# Altium schematic symbol library SG_SCH_AltSobor.SchLib: 94 symbols
Pins are listed as number, name and electrical type; pins without a type are passive.

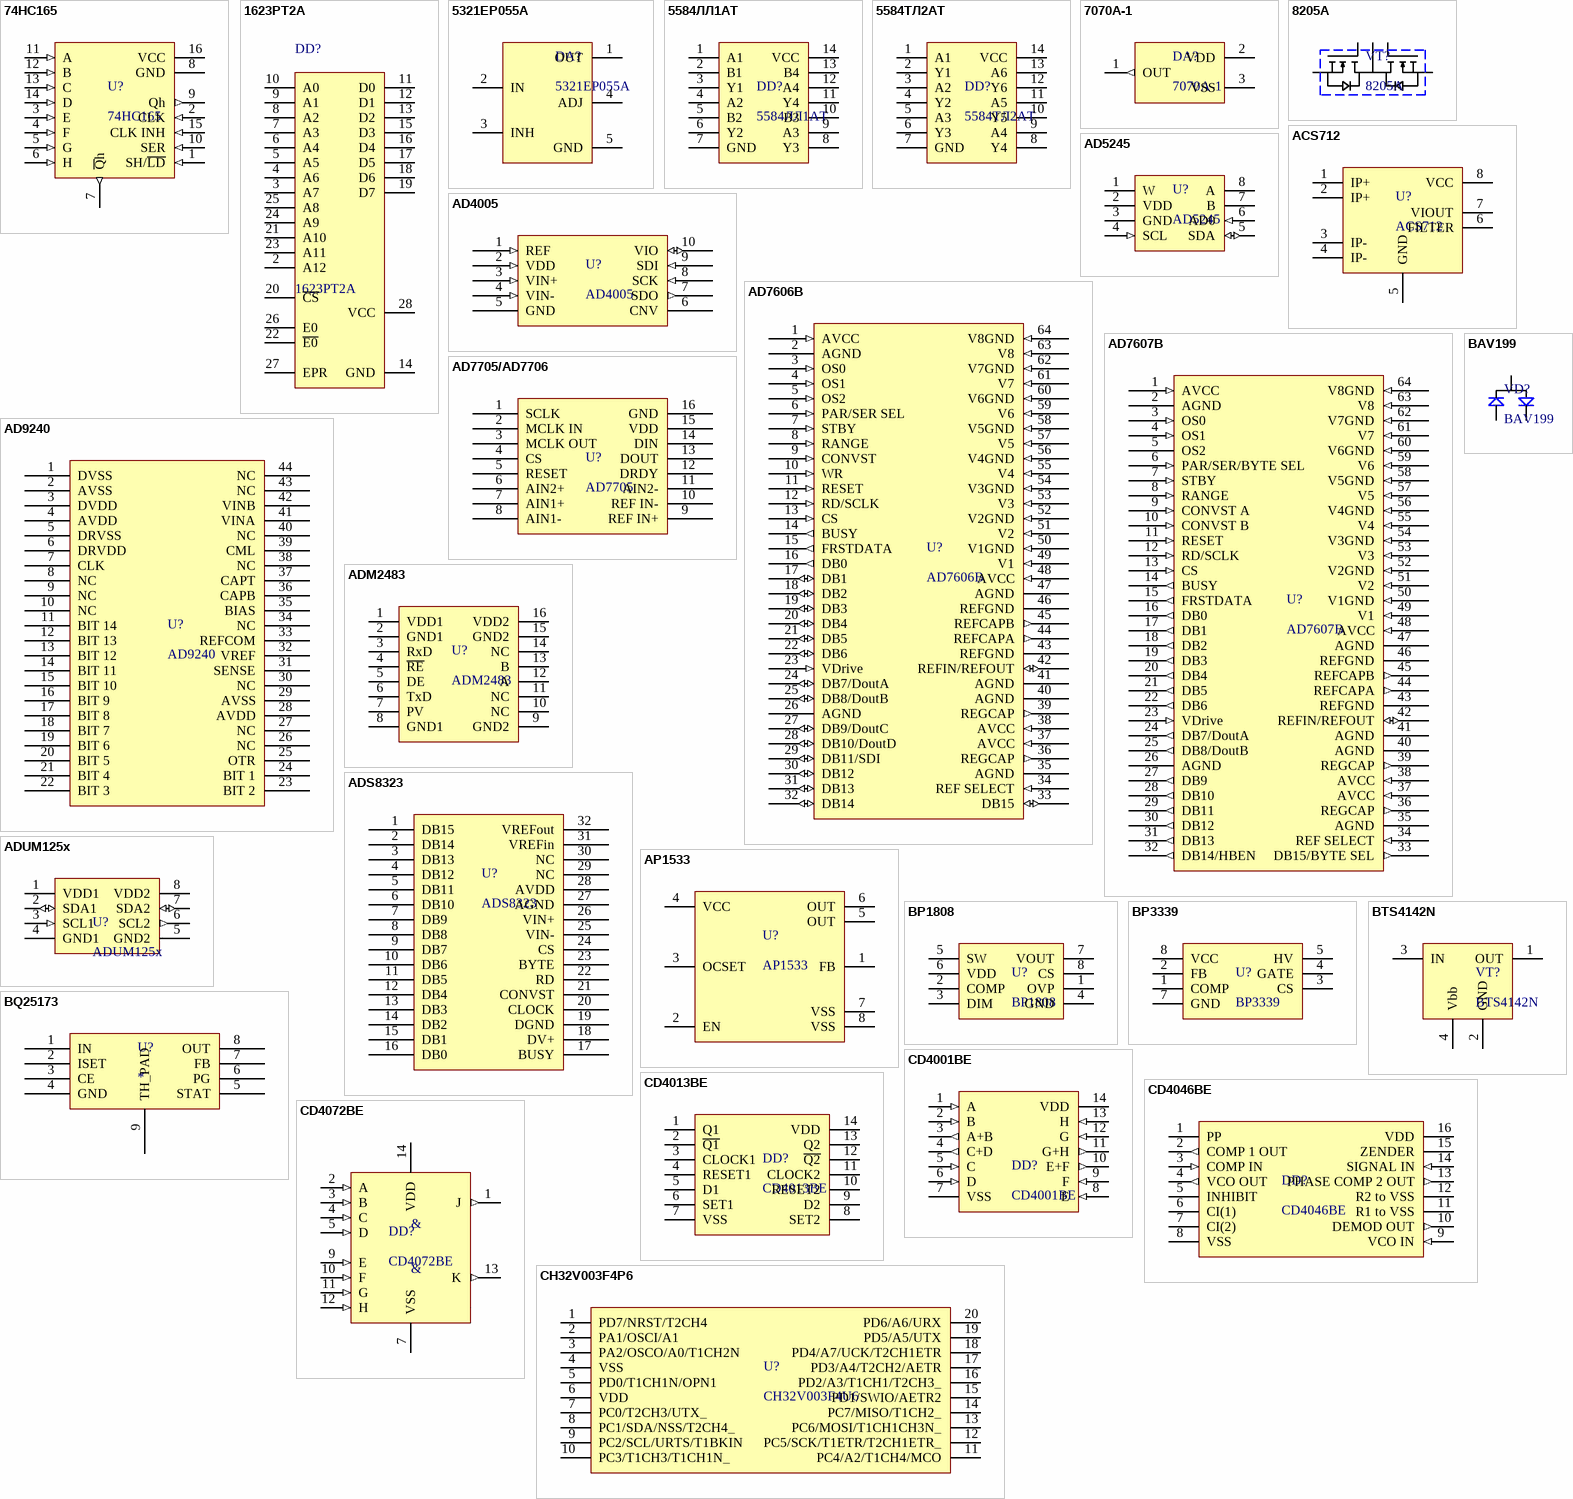
[diagram p0: symbols 74HC165 to CH32V003F4P6]

## 74HC165
designator U?
8-BIT PARALLEL-LOAD SHIFT REGISTERS; Order: 74HC165M
footprint SO-16
pins: 1 SH/~{LD} (in), 2 CLK (in), 3 E (in), 4 F (in), 5 G (in), 6 H (in), 7 ~{Q}h (out), 8 GND (power), 9 Qh (out), 10 SER (in), 11 A (in), 12 B (in), 13 C (in), 14 D (in), 15 CLK INH (in), 16 VCC (power)

## 1623PT2A
designator DD?
Постоянное запоминающее устройство / однократнопрограммируемое; Order: 1623PT2A
pins: 2 A12, 3 A7, 4 A6, 5 A5, 6 A4, 7 A3, 8 A2, 9 A1, 10 A0, 11 D0, 12 D1, 13 D2, 14 GND, 15 D3, 16 D4, 17 D5, 18 D6, 19 D7, 20 ~{CS}, 21 A10, 22 ~{E0}, 23 A11, 24 A9, 25 A8, 26 E0, 27 EPR, 28 VCC

## 5321EP055A
designator DA?
pins: 1 OUT, 2 IN, 3 INH, 4 ADJ, 5 GND

## 5584ЛЛ1АТ
designator DD?
Четыре логических элемента "2ИЛИ".
pins: 1 A1, 2 B1, 3 Y1, 4 A2, 5 B2, 6 Y2, 7 GND, 8 Y3, 9 A3, 10 B3, 11 Y4, 12 A4, 13 B4, 14 VCC

## 5584ТЛ2АТ
designator DD?
Микросхемы 5584ТЛ2АТ
pins: 1 A1, 2 Y1, 3 A2, 4 Y2, 5 A3, 6 Y3, 7 GND, 8 Y4, 9 A4, 10 Y5, 11 A5, 12 Y6, 13 A6, 14 VCC

## 7070A-1
designator DA?
Low Power Voltage Detector
pins: 1 OUT (out), 2 VDD (power), 3 VSS (power)

## 8205A
designator VT?
Dual N-Channel Enhancement PowerMosfet; Order: 8205A
footprint SOT23-6
pins: 1 S1, 2 D1/D2, 3 S2, 4 G2, 5 D1/D2, 6 G1

## ACS712
designator U?
Fully Integrated, Hall Effect-Based Linear Current Sensor IC / with 2.1 kVRMS Isolation and a Low-Resistance Current Conductor
footprint SO-8 (Small Outline; 8 Leads; Body Width 3.9 mm; Pitch 1.27 mm)
pins: 1 IP+, 2 IP+, 3 IP-, 4 IP-, 5 GND, 6 FILTER, 7 VIOUT, 8 VCC

## AD4005
designator U?
ADC 16 bit, 1MSPS
pins: 1 REF (in), 2 VDD (in), 3 VIN+ (in), 4 VIN- (in), 5 GND (power), 6 CNV, 7 SDO (out), 8 SCK (in), 9 SDI (in), 10 VIO (io)

## AD5245
designator U?
256-Position I2C-Compatible / Digital Potentiometer; Order: AD5245BRJZ100
footprint SOT23-RJ8
pins: 1 W, 2 VDD (power), 3 GND (power), 4 SCL (in), 5 SDA (io), 6 AD0 (in), 7 B, 8 A

## AD7606B
designator U?
ADC 16-bit, 800ksps, parallel
pins: 1 AVCC (in), 2 AGND (power), 3 OS0 (in), 4 OS1 (in), 5 OS2 (in), 6 PAR/SER SEL (in), 7 STBY (in), 8 RANGE (in), 9 CONVST (in), 10 WR (in), 11 RESET (in), 12 RD/SCLK (in), 13 CS (in), 14 BUSY (out), 15 FRSTDATA (out), 16 DB0 (out), 17 DB1 (io), 18 DB2 (io), 19 DB3 (io), 20 DB4 (io), 21 DB5 (io), 22 DB6 (io), 23 VDrive (in), 24 DB7/DoutA (io), 25 DB8/DoutB (io), 26 AGND (power), 27 DB9/DoutC (io), 28 DB10/DoutD (io), 29 DB11/SDI (io), 30 DB12 (io), 31 DB13 (io), 32 DB14 (io), 33 DB15 (io), 34 REF SELECT (in), 35 AGND (power), 36 REGCAP (out), 37 AVCC (in), 38 AVCC (in), 39 REGCAP (out), 40 AGND (power), 41 AGND (power), 42 REFIN/REFOUT (io), 43 REFGND (power), 44 REFCAPA (out), 45 REFCAPB (out), 46 REFGND (power), 47 AGND (power), 48 AVCC (in), 49 V1 (in), 50 V1GND (in), 51 V2 (in), 52 V2GND (in), 53 V3 (in), 54 V3GND (in), 55 V4 (in), 56 V4GND (in), 57 V5 (in), 58 V5GND (in), 59 V6 (in), 60 V6GND (in), 61 V7 (in), 62 V7GND (in), 63 V8 (in), 64 V8GND (in)

## AD7607B
designator U?
ADC 16-bit, 800ksps, parallel
pins: 1 AVCC (in), 2 AGND (power), 3 OS0 (in), 4 OS1 (in), 5 OS2, 6 PAR/SER/BYTE SEL (in), 7 STBY (in), 8 RANGE (in), 9 CONVST A (in), 10 CONVST B (in), 11 RESET (in), 12 RD/SCLK (in), 13 CS (in), 14 BUSY (out), 15 FRSTDATA (out), 16 DB0 (out), 17 DB1 (out), 18 DB2 (out), 19 DB3 (out), 20 DB4 (out), 21 DB5 (out), 22 DB6 (out), 23 VDrive (in), 24 DB7/DoutA (out), 25 DB8/DoutB (out), 26 AGND (power), 27 DB9 (out), 28 DB10 (out), 29 DB11 (out), 30 DB12 (out), 31 DB13 (out), 32 DB14/HBEN (out), 33 DB15/BYTE SEL (out), 34 REF SELECT (in), 35 AGND (power), 36 REGCAP (out), 37 AVCC (in), 38 AVCC (in), 39 REGCAP (out), 40 AGND (power), 41 AGND (power), 42 REFIN/REFOUT (io), 43 REFGND (power), 44 REFCAPA (out), 45 REFCAPB (out), 46 REFGND (power), 47 AGND (power), 48 AVCC (in), 49 V1 (in), 50 V1GND (in), 51 V2 (in), 52 V2GND (in), 53 V3 (in), 54 V3GND (in), 55 V4 (in), 56 V4GND (in), 57 V5 (in), 58 V5GND (in), 59 V6 (in), 60 V6GND (in), 61 V7 (in), 62 V7GND (in), 63 V8 (in), 64 V8GND (in)

## AD7705/AD7706
designator U?, comment AD7705
2 fully differential input channel ADCs 16 bit
pins: 1 SCLK, 2 MCLK IN, 3 MCLK OUT, 4 CS, 5 RESET, 6 AIN2+, 7 AIN1+, 8 AIN1-, 9 REF IN+, 10 REF IN-, 11 AIN2-, 12 DRDY, 13 DOUT, 14 DIN, 15 VDD, 16 GND

## AD9240
designator U?
ADC 14 bit
pins: 1 DVSS, 2 AVSS, 3 DVDD, 4 AVDD, 5 DRVSS, 6 DRVDD, 7 CLK, 8 NC, 9 NC, 10 NC, 11 BIT 14, 12 BIT 13, 13 BIT 12, 14 BIT 11, 15 BIT 10, 16 BIT 9, 17 BIT 8, 18 BIT 7, 19 BIT 6, 20 BIT 5, 21 BIT 4, 22 BIT 3, 23 BIT 2, 24 BIT 1, 25 OTR, 26 NC, 27 NC, 28 AVDD, 29 AVSS, 30 NC, 31 SENSE, 32 VREF, 33 REFCOM, 34 NC, 35 BIAS, 36 CAPB, 37 CAPT, 38 NC, 39 CML, 40 NC, 41 VINA, 42 VINB, 43 NC, 44 NC

## ADM2483
designator U?
Order: ADM2483
footprint SO-16_300mil
pins: 1 VDD1, 2 GND1, 3 RxD, 4 ~{RE}, 5 DE, 6 TxD, 7 PV, 8 GND1, 9 GND2, 10 NC, 11 NC, 12 A, 13 B, 14 NC, 15 GND2, 16 VDD2

## ADS8323
designator U?
ADC 16 bit 500 kSPS; Order: ADS8323
footprint QFN-32 (, Pitch 0,40mm, Thermal Pad 2,80x2,80mm, IPC Medium Density)
footprint TQFP-32 (TQFP, 32-Leads, Body 7,00x7,00mm, Pitch 0,80mm, IPC Medium Density)
pins: 1 DB15, 2 DB14, 3 DB13, 4 DB12, 5 DB11, 6 DB10, 7 DB9, 8 DB8, 9 DB7, 10 DB6, 11 DB5, 12 DB4, 13 DB3, 14 DB2, 15 DB1, 16 DB0, 17 BUSY, 18 DV+, 19 DGND, 20 CLOCK, 21 CONVST, 22 RD, 23 BYTE, 24 CS, 25 VIN-, 26 VIN+, 27 AGND, 28 AVDD, 29 NC, 30 NC, 31 VREFin, 32 VREFout

## ADUM125x
designator U?
Hot Swappable Dual I2C Isolators; Order: ADUM1251
footprint SO-8 (Small Outline; 8 Leads; Body Width 3.9 mm; Pitch 1.27 mm)
pins: 1 VDD1 (power), 2 SDA1 (io), 3 SCL1 (in), 4 GND1 (power), 5 GND2 (power), 6 SCL2 (out), 7 SDA2 (io), 8 VDD2 (power)

## AP1533
designator U?
PWM CONTROL 1.8A STEP-DOWN CONVERTER
pins: 1 FB, 2 EN, 3 OCSET, 4 VCC, 5 OUT, 6 OUT, 7 VSS, 8 VSS

## BAV199
designator VD?
Low-leakage double diode; Order: BAV199
footprint SOT23-3
pins: 1, 2, 3

## BP1808
designator U?
Boost, Buck and Buck-Boost DC/DC LED Driver
footprint SO-8 (Small Outline; 8 Leads; Body Width 3.9 mm; Pitch 1.27 mm)
pins: 1 OVP, 2 COMP, 3 DIM, 4 GND, 5 SW, 6 VDD, 7 VOUT, 8 CS

## BP3339
designator U?
High PF PSR LED Driver Controller; Order: BP3339
footprint SO-8 (Small Outline; 8 Leads; Body Width 3.9 mm; Pitch 1.27 mm)
pins: 1 COMP, 2 FB, 3 CS, 4 GATE, 5 HV, 7 GND, 8 VCC

## BQ25173
designator U?
pins: 1 IN (power), 2 ISET, 3 CE, 4 GND (power), 5 STAT, 6 PG, 7 FB, 8 OUT (power), 9 TH_PAD

## BTS4142N
designator VT?
Smart High-Side Power Switch; Order: BTS4142N
footprint SOT223
pins: 1 OUT, 2 GND, 3 IN, 4 Vbb

## CD4001BE
designator DD?
4 & logic; Order: CD4001BE
pins: 1 A (in), 2 B (in), 3 A+B (out), 4 C+D (out), 5 C (in), 6 D (in), 7 VSS (power), 8 E (in), 9 F (in), 10 E+F (out), 11 G+H (out), 12 G (in), 13 H (in), 14 VDD (power)

## CD4013BE
designator DD?
2xTrigger; Order: CD4013BE
pins: 1 Q1, 2 ~{Q1}, 3 CLOCK1, 4 RESET1, 5 D1, 6 SET1, 7 VSS, 8 SET2, 9 D2, 10 RESET2, 11 CLOCK2, 12 ~{Q2}, 13 Q2, 14 VDD

## CD4046BE
designator DD?
CMOS Micropower Phase-Locked Loop
footprint DIP-16
pins: 1 PP, 2 COMP 1 OUT (out), 3 COMP IN (in), 4 VCO OUT (out), 5 INHIBIT, 6 CI(1), 7 CI(2), 8 VSS (power), 9 VCO IN (in), 10 DEMOD OUT (out), 11 R1 to VSS, 12 R2 to VSS, 13 PHASE COMP 2 OUT (out), 14 SIGNAL IN (in), 15 ZENDER (power), 16 VDD (power)

## CD4072BE
designator DD?
2x4-input OR; Order: CD4072BE
pins: 1 J (out), 2 A (in), 3 B (in), 4 C (in), 5 D (in), 6 NC, 7 VSS (power), 8 NC, 9 E (in), 10 F (in), 11 G (in), 12 H (in), 13 K (out), 14 VDD (power)
text: &

## CH32V003F4P6
designator U?, comment CH32V003F4U6
Микроконтроллер
footprint QFN-20
pins: 1 PD7/NRST/T2CH4, 2 PA1/OSCI/A1, 3 PA2/OSCO/A0/T1CH2N, 4 VSS, 5 PD0/T1CH1N/OPN1, 6 VDD, 7 PC0/T2CH3/UTX_, 8 PC1/SDA/NSS/T2CH4_, 9 PC2/SCL/URTS/T1BKIN, 10 PC3/T1CH3/T1CH1N_, 11 PC4/A2/T1CH4/MCO, 12 PC5/SCK/T1ETR/T2CH1ETR_, 13 PC6/MOSI/T1CH1CH3N_, 14 PC7/MISO/T1CH2_, 15 PD1/SWIO/AETR2, 16 PD2/A3/T1CH1/T2CH3_, 17 PD3/A4/T2CH2/AETR, 18 PD4/A7/UCK/T2CH1ETR, 19 PD5/A5/UTX, 20 PD6/A6/URX

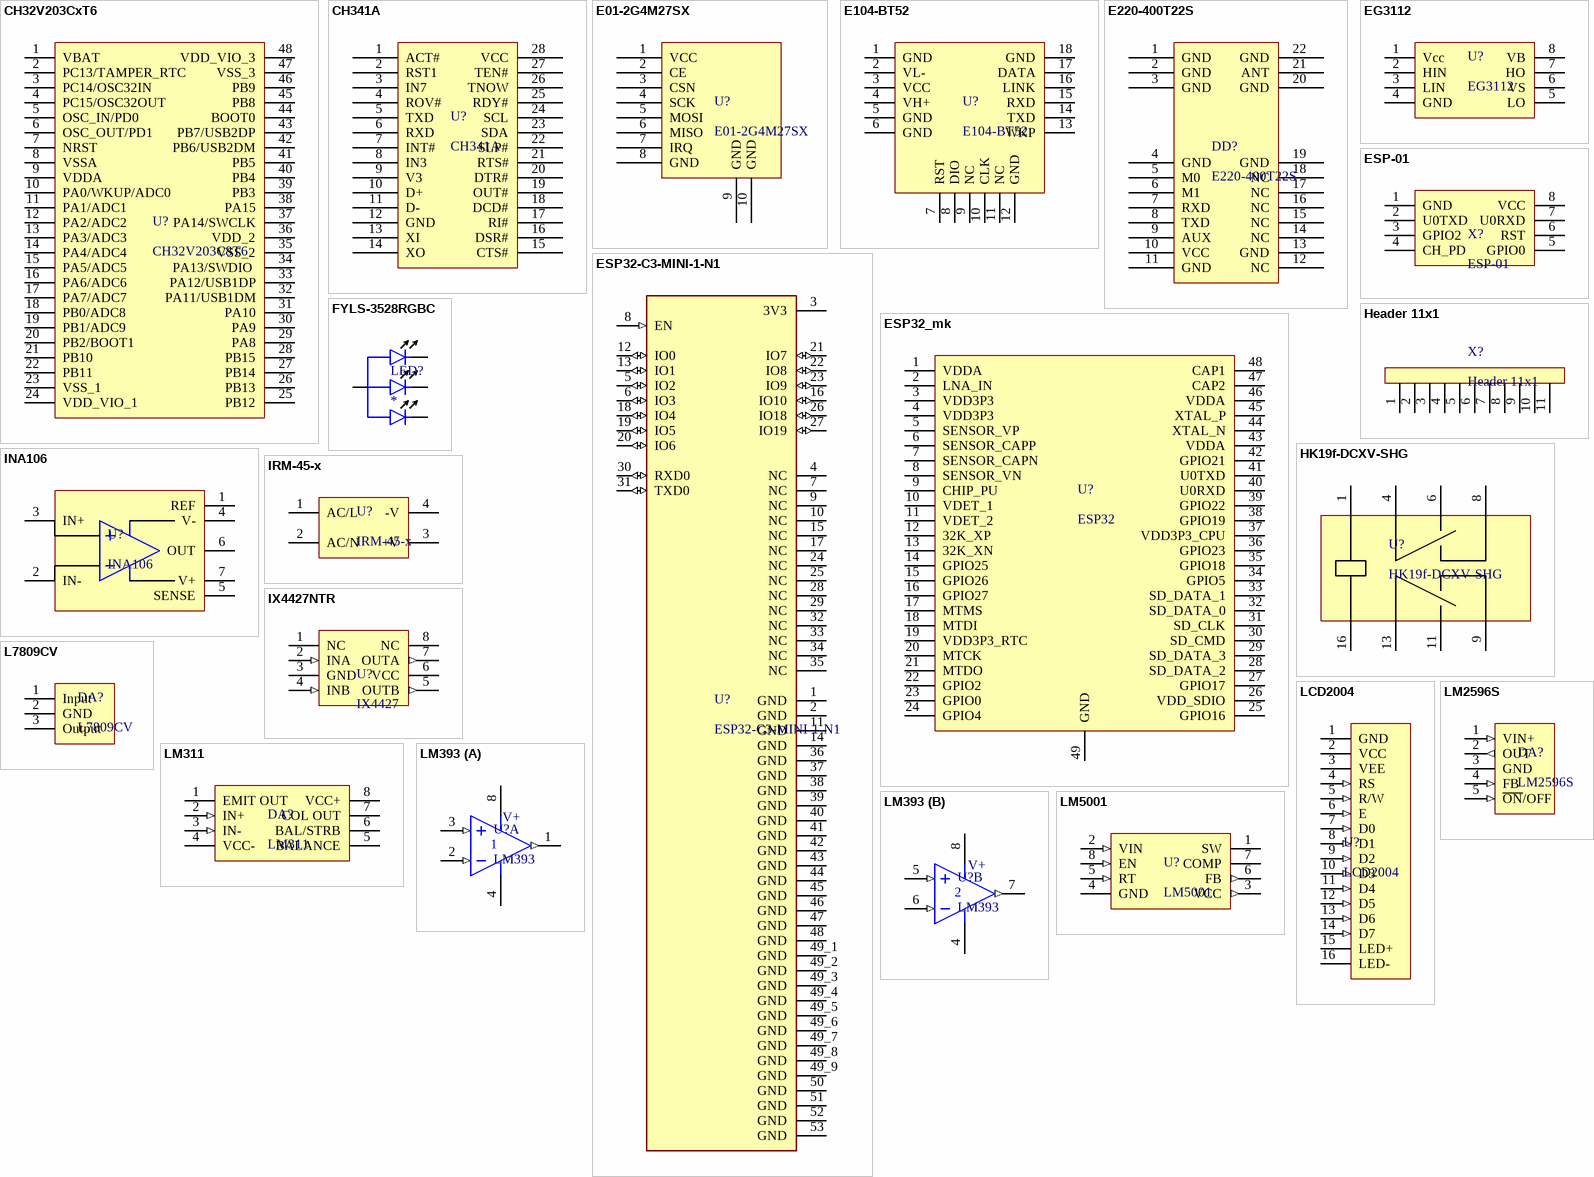
[diagram p1: symbols CH32V203CxT6 to LM5001]

## CH32V203CxT6
designator U?, comment CH32V203C8T6
CH32V203C8T6, Микроконтроллер 32-Бит, RISC-V, 144МГц, 64КБ Flash [LQFP-48]; Order: CH32V203C8T6
footprint LQFP-48 (48-Pin Thin Quad Flat Pack 0.5 mm Pitch, IPC High Density)
pins: 1 VBAT, 2 PC13/TAMPER_RTC, 3 PC14/OSC32IN, 4 PC15/OSC32OUT, 5 OSC_IN/PD0, 6 OSC_OUT/PD1, 7 NRST, 8 VSSA, 9 VDDA, 10 PA0/WKUP/ADC0 , 11 PA1/ADC1, 12 PA2/ADC2, 13 PA3/ADC3, 14 PA4/ADC4, 15 PA5/ADC5, 16 PA6/ADC6, 17 PA7/ADC7, 18 PB0/ADC8, 19 PB1/ADC9, 20 PB2/BOOT1, 21 PB10, 22 PB11, 23 VSS_1, 24 VDD_VIO_1, 25 PB12, 26 PB13, 27 PB14, 28 PB15, 29 PA8, 30 PA9, 31 PA10, 32 PA11/USB1DM, 33 PA12/USB1DP, 34 PA13/SWDIO , 35 VSS_2, 36 VDD_2, 37 PA14/SWCLK, 38 PA15, 39 PB3, 40 PB4, 41 PB5, 42 PB6/USB2DM, 43 PB7/USB2DP, 44 BOOT0, 45 PB8, 46 PB9, 47 VSS_3, 48 VDD_VIO_3

## CH341A
designator U?
USB-UART convertor
pins: 1 ACT#, 2 RST1, 3 IN7, 4 ROV#, 5 TXD, 6 RXD, 7 INT#, 8 IN3, 9 V3, 10 D+, 11 D-, 12 GND, 13 XI, 14 XO, 15 CTS#, 16 DSR#, 17 RI#, 18 DCD#, 19 OUT#, 20 DTR#, 21 RTS#, 22 SLP#, 23 SDA, 24 SCL, 25 RDY#, 26 TNOW, 27 TEN#, 28 VCC

## E01-2G4M27SX
designator U?
NRF-Radio 2.4 GHz; Order: E01-2G4M27SX
pins: 1 VCC, 2 CE, 3 CSN, 4 SCK, 5 MOSI, 6 MISO, 7 IRQ, 8 GND, 9 GND, 10 GND

## E104-BT52
designator U?
BLE 5.0; Order: E104-BT52
pins: 1 GND, 2 VL-, 3 VCC, 4 VH+, 5 GND, 6 GND, 7 RST, 8 DIO, 9 NC, 10 CLK, 11 NC, 12 GND, 13 WKP, 14 TXD, 15 RXD, 16 LINK, 17 DATA, 18 GND

## E220-400T22S
designator DD?
22dBm LoRa module; Order: *; DefaultOrder: E220-400T22S
pins: 1 GND, 2 GND, 3 GND, 4 GND, 5 M0, 6 M1, 7 RXD, 8 TXD, 9 AUX, 10 VCC, 11 GND, 12 NC, 13 GND, 14 NC, 15 NC, 16 NC, 17 NC, 18 NC, 19 GND, 20 GND, 21 ANT, 22 GND

## EG3112
designator U?
Драйверы MOSFET и IGBT; Order: EG3112
footprint SO-8 (Small Outline; 8 Leads; Body Width 3.9 mm; Pitch 1.27 mm)
pins: 1 Vcc, 2 HIN, 3 LIN, 4 GND, 5 LO, 6 VS, 7 HO, 8 VB

## ESP32-C3-MINI-1-N1
designator U?
pins: 1 GND (power), 2 GND (power), 3 3V3 (power), 4 NC, 5 IO2 (io), 6 IO3 (io), 7 NC, 8 EN (in), 9 NC, 10 NC, 11 GND (power), 12 IO0 (io), 13 IO1 (io), 14 GND (power), 15 NC, 16 IO10 (io), 17 NC, 18 IO4 (io), 19 IO5 (io), 20 IO6 (io), 21 IO7 (io), 22 IO8 (io), 23 IO9 (io), 24 NC, 25 NC, 26 IO18 (io), 27 IO19 (io), 28 NC, 29 NC, 30 RXD0 (io), 31 TXD0 (io), 32 NC, 33 NC, 34 NC, 35 NC, 36 GND (power), 37 GND (power), 38 GND (power), 39 GND (power), 40 GND (power), 41 GND (power), 42 GND (power), 43 GND (power), 44 GND (power), 45 GND (power), 46 GND (power), 47 GND (power), 48 GND (power), 49_1 GND (power), 49_2 GND (power), 49_3 GND (power), 49_4 GND (power), 49_5 GND (power), 49_6 GND (power), 49_7 GND (power), 49_8 GND (power), 49_9 GND (power), 50 GND (power), 51 GND (power), 52 GND (power), 53 GND (power)

## ESP32_mk
designator U?, comment ESP32
ESP32 is a single 2.4 GHz Wi-Fi-and-Bluetooth combo chip designed with the TSMC ultra-low-power 40 nm / technology. It is designed to achieve the best power and RF performance, showing robustness, versatility and / reliability in a wide variety of applications and power scenarios. / The ESP32 series of chips includes ESP32-D0WD-V3, ESP32-D0WDQ6-V3, ESP32-D0WD, ESP32-D0WDQ6, / ESP32-D2WD, ESP32-S0WD, and ESP32-U4WDH, among which, ESP32-D0WD-V3, ESP32-D0WDQ6-V3, / and ESP32-U4WDH are based on ECO V3 wafer; Order: ESP32-D0WD-V3
footprint QFN-48M (QFN, 48-Leads, Body 6,00x6,00mm, Pitch 0,40mm, Thermal Pad 4,60x4,60mm, IPC Low Density)
pins: 1 VDDA (power), 2 LNA_IN, 3 VDD3P3 (power), 4 VDD3P3 (power), 5 SENSOR_VP, 6 SENSOR_CAPP, 7 SENSOR_CAPN, 8 SENSOR_VN, 9 CHIP_PU, 10 VDET_1, 11 VDET_2, 12 32K_XP, 13 32K_XN, 14 GPIO25, 15 GPIO26, 16 GPIO27, 17 MTMS, 18 MTDI, 19 VDD3P3_RTC, 20 MTCK, 21 MTDO, 22 GPIO2, 23 GPIO0, 24 GPIO4, 25 GPIO16, 26 VDD_SDIO, 27 GPIO17, 28 SD_DATA_2, 29 SD_DATA_3, 30 SD_CMD, 31 SD_CLK, 32 SD_DATA_0, 33 SD_DATA_1, 34 GPIO5, 35 GPIO18, 36 GPIO23, 37 VDD3P3_CPU, 38 GPIO19, 39 GPIO22, 40 U0RXD, 41 U0TXD, 42 GPIO21, 43 VDDA (power), 44 XTAL_N, 45 XTAL_P, 46 VDDA (power), 47 CAP2, 48 CAP1, 49 GND (power)

## ESP-01
designator X?
WiFi модуль ESP8266 ESP01; Order: ESP01
footprint WIRELESS-WIFI-ESP-01
pins: 1 GND, 2 U0TXD, 3 GPIO2, 4 CH_PD, 5 GPIO0, 6 RST, 7 U0RXD, 8 VCC

## FYLS-3528RGBC
designator LED?
Light Emmiting RGB Diode; Order: FYLS-3528RGBC
pins: 1 RED, 2 Anode, 3 GREEN, 4 BLUE

## Header 11x1
designator X?
Order: *
pins: 1, 2, 3, 4, 5, 6, 7, 8, 9, 10, 11

## HK19f-DCXV-SHG
designator U?
Реле; Order: HK19f-DCXV-SHG
pins: 1, 4, 6, 8, 9, 11, 13, 16

## INA106
designator U?
Precision Gain = 10 / DIFFERENTIAL AMPLIFIER; Order: INA106
footprint SO-8 (Small Outline; 8 Leads; Body Width 3.9 mm; Pitch 1.27 mm)
pins: 1 REF, 2 IN-, 3 IN+, 4 V-, 5 SENSE, 6 OUT, 7 V+

## IRM-45-x
designator U?
45W AC-DC PCB-Mount Green Power Module; Order: *
footprint IRM-45
pins: 1 AC/L (power), 2 AC/N (power), 3 +V (power), 4 -V (power)

## IX4427NTR
designator U?, comment IX4427
1.5-Ampere Dual Low-Side / Ultrafast MOSFET Drivers; Order: IX4427NTR
footprint SO-8 (Small Outline; 8 Leads; Body Width 3.9 mm; Pitch 1.27 mm)
pins: 1 NC, 2 INA (in), 3 GND (power), 4 INB (in), 5 OUTB (out), 6 VCC (power), 7 OUTA (out), 8 NC

## L7809CV
designator DA?
L7809CV, Стабилизатор напряжения +9В, 1.5А, 4%, (0°C...+125°C), [TO-220]; Order: L7809CV
footprint TO-220
pins: 1 Input, 2 GND, 3 Output

## LCD2004
designator U?
LCD2004, Индикатор символьный 20х4 на основе HD44780
pins: 1 GND (power), 2 VCC (power), 3 VEE (power), 4 RS (in), 5 R/W (in), 6 E (in), 7 D0 (in), 8 D1 (in), 9 D2 (in), 10 D3 (in), 11 D4 (in), 12 D5 (in), 13 D6 (in), 14 D7 (in), 15 LED+ (power), 16 LED- (power)

## LM311
designator DA?
LMx11 Quad Differential Comparators; Order: LM311
footprint SO-8 (Small Outline; 8 Leads; Body Width 3.9 mm; Pitch 1.27 mm)
footprint DIP-8-300 (DIP; 8 Leads; Row Spacing 7.62 mm; Pitch 2.54 mm)
pins: 1 EMIT OUT (oe), 2 IN+ (in), 3 IN- (in), 4 VCC- (power), 5 BALANCE, 6 BAL/STRB, 7 COL OUT (oc), 8 VCC+

## LM393
designator U?
Двойной маломощный компаратор напряжения
part A pins: 1 OUT (out), 2 IN+ (in), 3 IN- (in), 4 V- (power), 8 V+ (power)
part B pins: 4 V- (power), 5 IN- (in), 6 IN+ (in), 7 OUT (out), 8 V+ (power)

## LM2596S
designator DA?
3A Step-Down Voltage Regulator; Order: LM2596S
pins: 1 VIN+ (in), 2 OUT (out), 3 GND (power), 4 FB (in), 5 ~{ON}/OFF (in)

## LM5001
designator U?
High-Voltage Switch-Mode Regulator; Order: LM5001
footprint SO-8 (Small Outline; 8 Leads; Body Width 3.9 mm; Pitch 1.27 mm)
pins: 1 SW (oc), 2 VIN (in), 3 VCC (out), 4 GND (power), 5 RT (in), 6 FB (out), 7 COMP (oc), 8 EN (in)

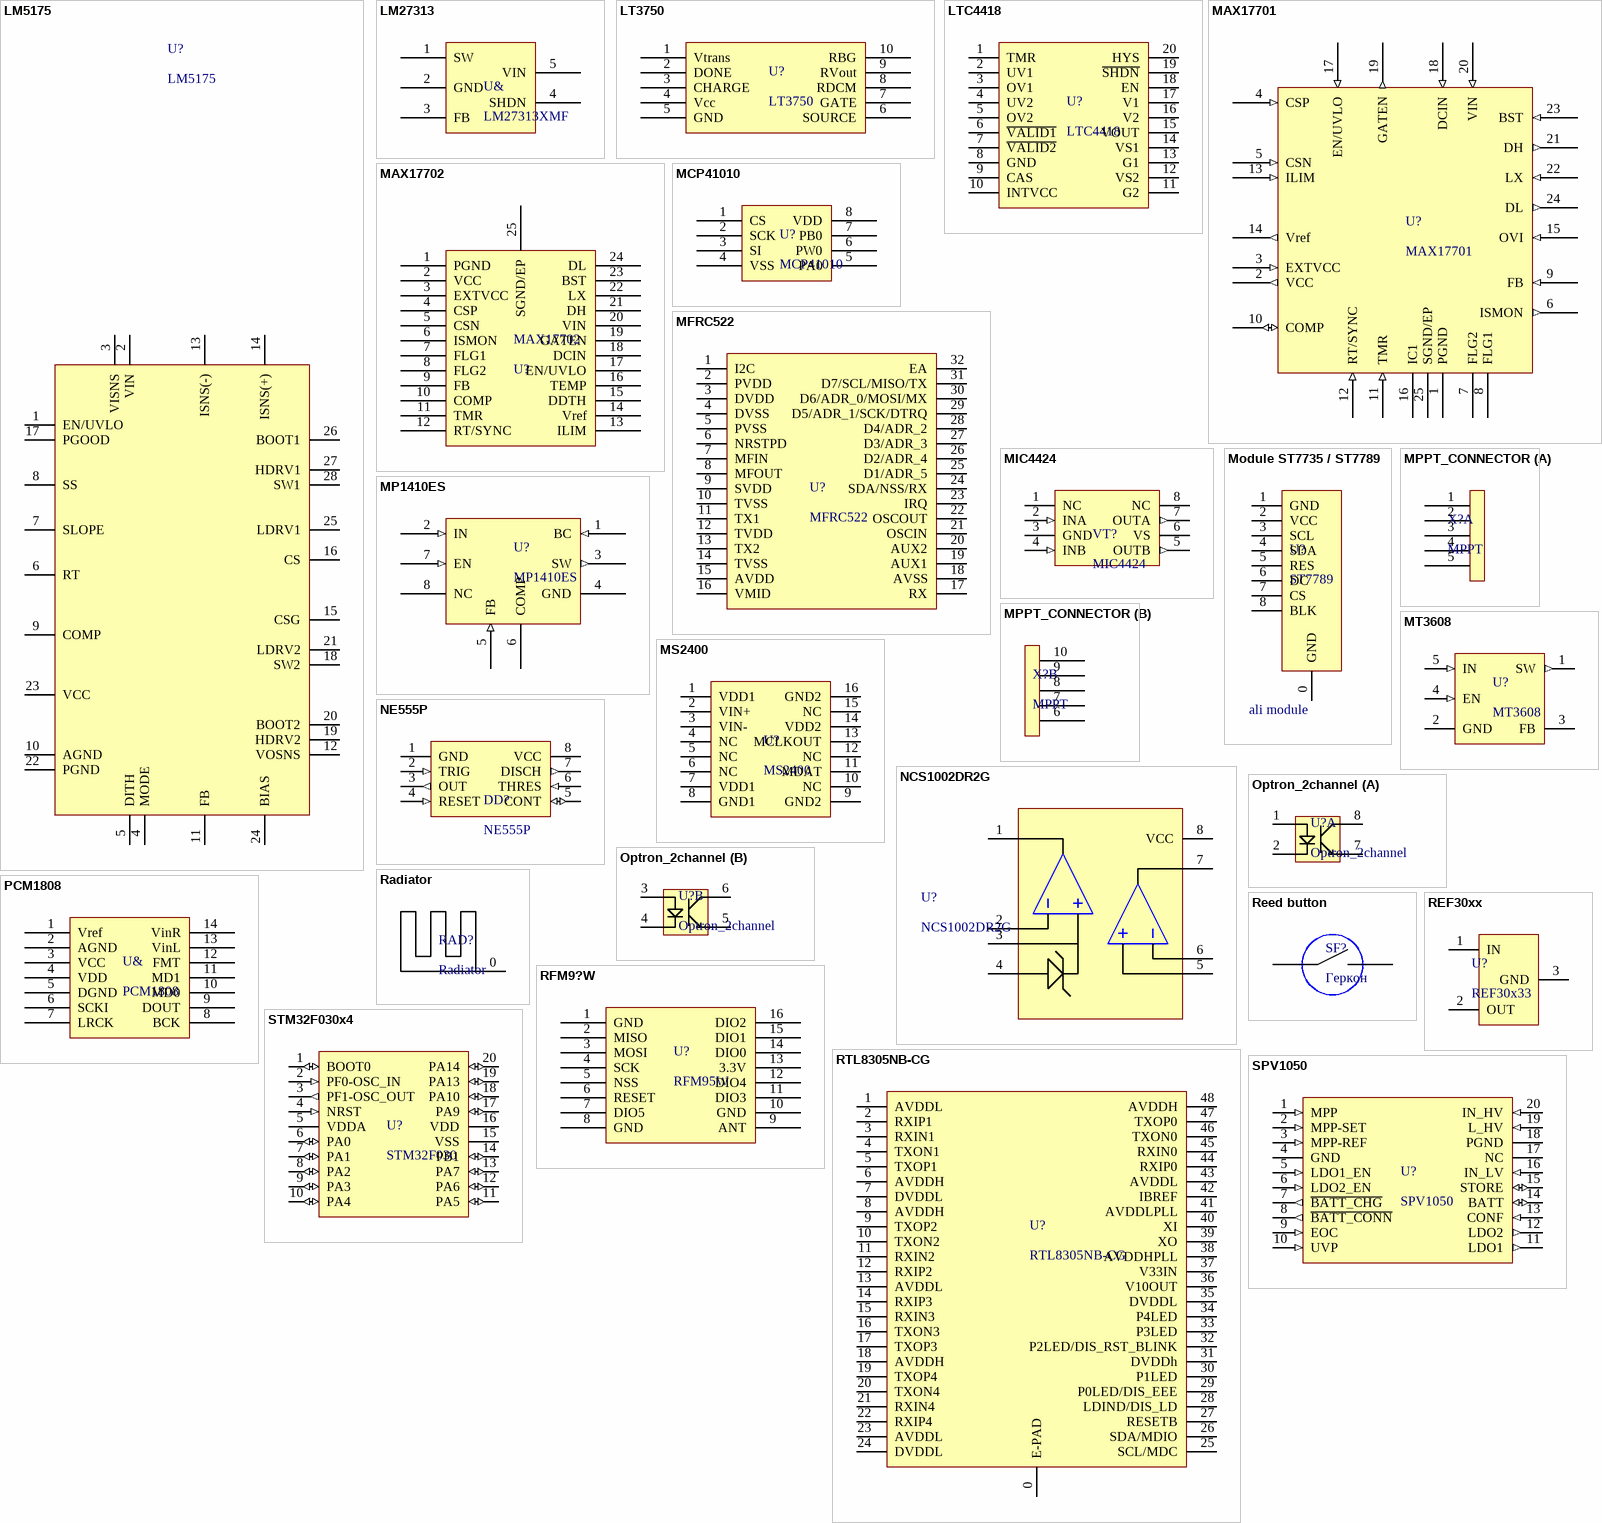
[diagram p2: symbols LM5175 to STM32F030x4]

## LM5175
designator U?
LM5175 42-V Wide VIN Synchronous 4-Switch Buck-Boost Controller; Order: LM5175
footprint TSSOP-28 (TSOP, 28-Leads, Body 9,70x4,40mm, Pitch 0,65mm, IPC Medium Density)
pins: 1 EN/UVLO, 2 VIN, 3 VISNS, 4 MODE, 5 DITH, 6 RT, 7 SLOPE, 8 SS, 9 COMP, 10 AGND, 11 FB, 12 VOSNS, 13 ISNS(-), 14 ISNS(+), 15 CSG, 16 CS, 17 PGOOD, 18 SW2, 19 HDRV2, 20 BOOT2, 21 LDRV2, 22 PGND, 23 VCC, 24 BIAS, 25 LDRV1, 26 BOOT1, 27 HDRV1, 28 SW1

## LM27313
designator U&, comment LM27313XMF
Order: LM27313XMF
footprint sop (Footprint not found)
footprint SOT23-5
pins: 1 SW, 2 GND, 3 FB, 4 SHDN, 5 VIN

## LT3750
designator U?
Capacitor Charger Controller
pins: 1 Vtrans (power), 2 DONE, 3 CHARGE, 4 Vcc (power), 5 GND (power), 6 SOURCE, 7 GATE, 8 RDCM, 9 RVout (power), 10 RBG

## LTC4418
designator U?
Dual Channel Prioritized / PowerPath Controller; Order: LTC4418
footprint QFN-20M (QFN, 20-Leads, Body 3,00x3,00mm, Pitch 0,40mm, Thermal Pad 1,70x1,70mm, IPC Low Density)
pins: 1 TMR, 2 UV1, 3 OV1, 4 UV2, 5 OV2, 6 ~{VALID1}, 7 ~{VALID2}, 8 GND, 9 CAS, 10 INTVCC, 11 G2, 12 VS2, 13 G1, 14 VS1, 15 VOUT, 16 V2, 17 V1, 18 EN, 19 ~{SHDN}, 20 HYS

## MAX17701
designator U?
Supercap charger
pins: 1 PGND (power), 2 VCC (out), 3 EXTVCC (in), 4 CSP (in), 5 CSN (in), 6 ISMON (out), 7 FLG2 (oc), 8 FLG1 (oc), 9 FB (in), 10 COMP (io), 11 TMR (in), 12 RT/SYNC (in), 13 ILIM (in), 14 Vref (out), 15 OVI (in), 16 IC1, 17 EN/UVLO (in), 18 DCIN (in), 19 GATEN (out), 20 VIN (in), 21 DH (out), 22 LX (in), 23 BST (in), 24 DL (out), 25 SGND/EP (power)

## MAX17702
designator MAX17702, comment U?
LEAD ACID charger (not supercap)
pins: 1 PGND, 2 VCC, 3 EXTVCC, 4 CSP, 5 CSN, 6 ISMON, 7 FLG1, 8 FLG2, 9 FB, 10 COMP, 11 TMR, 12 RT/SYNC, 13 ILIM, 14 Vref, 15 DDTH, 16 TEMP, 17 EN/UVLO, 18 DCIN, 19 GATEN, 20 VIN, 21 DH, 22 LX, 23 BST, 24 DL, 25 SGND/EP

## MCP41010
designator U?
Digital reostat soic-8 256 pos; Order: *
pins: 1 CS, 2 SCK, 3 SI, 4 VSS, 5 PA0, 6 PW0, 7 PB0, 8 VDD

## MFRC522
designator U?
Standard 3V MIFARE reader solution; Order: MFRC522
footprint QFN-32 (, Pitch 0,40mm, Thermal Pad 2,80x2,80mm, IPC Medium Density)
pins: 1 I2C, 2 PVDD, 3 DVDD, 4 DVSS, 5 PVSS, 6 NRSTPD, 7 MFIN, 8 MFOUT, 9 SVDD, 10 TVSS, 11 TX1, 12 TVDD, 13 TX2, 14 TVSS, 15 AVDD, 16 VMID, 17 RX, 18 AVSS, 19 AUX1, 20 AUX2, 21 OSCIN, 22 OSCOUT, 23 IRQ, 24 SDA/NSS/RX, 25 D1/ADR_5, 26 D2/ADR_4, 27 D3/ADR_3, 28 D4/ADR_2, 29 D5/ADR_1/SCK/DTRQ, 30 D6/ADR_0/MOSI/MX, 31 D7/SCL/MISO/TX, 32 EA

## MIC4424
designator VT?
Dual 3A-Peak Low-Side MOSFET Driver; Oredr: MIC4424
pins: 1 NC, 2 INA (in), 3 GND (power), 4 INB (in), 5 OUTB (out), 6 VS (power), 7 OUTA (out), 8 NC

## Module ST7735 / ST7789
designator U?, comment ST7789  Order: ali module
Module ST7735 / ST7789 Screen
pins: 0 GND, 1 GND, 2 VCC, 3 SCL, 4 SDA, 5 RES, 6 DC, 7 CS, 8 BLK

## MP1410ES
designator U?
Step-down DCDC
footprint SO-8 (Small Outline; 8 Leads; Body Width 3.9 mm; Pitch 1.27 mm)
pins: 1 BC (in), 2 IN (in), 3 SW (out), 4 GND (power), 5 FB (in), 6 COMP, 7 EN (in), 8 NC

## MPPT_CONNECTOR
designator X?, comment MPPT
part A pins: 1, 2, 3, 4, 5
part B pins: 6, 7, 8, 9, 10

## MS2400
designator U?
Isolation Σ-Δ Modulator; Order: MS2400
footprint SO-16_300mil
pins: 1 VDD1, 2 VIN+, 3 VIN-, 4 NC, 5 NC, 6 NC, 7 VDD1, 8 GND1, 9 GND2, 10 NC, 11 MDAT, 12 NC, 13 MCLKOUT, 14 VDD2, 15 NC, 16 GND2

## MT3608
designator U?
Step-up DCDC; Order: MT3608
footprint SOT23-6
pins: 1 SW (out), 2 GND (power), 3 FB, 4 EN (in), 5 IN (in)

## NCS1002DR2G
designator U?
Constant Voltage / Constant / Current SecondarySide Controller; Order: NCS1002DR2G
footprint SO-8 (Small Outline; 8 Leads; Body Width 3.9 mm; Pitch 1.27 mm)
pins: 1 OUT1, 2 IN1-, 3 IN1+, 4 GND, 5 IN2+, 6 IN2-, 7 OUT2, 8 VCC

## NE555P
designator DD?
xx555 Precision Timers
pins: 1 GND (power), 2 TRIG (in), 3 OUT (out), 4 RESET (in), 5 CONT (io), 6 THRES (in), 7 DISCH (out), 8 VCC

## Optron_2channel
designator U?
part A pins: 1, 2 11, 7 (oe), 8 (oc)
part B pins: 3, 4, 5 (oe), 6 (oc)

## PCM1808
designator U&
audio ADC with serial output
pins: 1 Vref, 2 AGND, 3 VCC, 4 VDD, 5 DGND, 6 SCKI, 7 LRCK, 8 BCK, 9 DOUT, 10 MD0, 11 MD1, 12 FMT, 13 VinL, 14 VinR

## Radiator
designator RAD?
pins: 0

## Reed button
designator SF?, comment Геркон
pins: 1, 2

## REF30xx
designator U?, comment REF30x33
SBVS032G –MARCH 2002–REVISED NOVEMBER 2015 / REF30xx 50-ppm/°C Max, 50-μA, CMOS Voltage Reference in SOT-23-3; Order: REF3033
footprint SOT23-3
pins: 1 IN (power), 2 OUT (power), 3 GND (power)

## RFM9?W
designator U?, comment RFM95W
LoRa Transmitter; Order: RFM95W
pins: 1 GND, 2 MISO, 3 MOSI, 4 SCK, 5 NSS, 6 RESET, 7 DIO5, 8 GND, 9 ANT, 10 GND, 11 DIO3, 12 DIO4, 13 3.3V, 14 DIO0, 15 DIO1, 16 DIO2

## RTL8305NB-CG
designator U?
Однокристальный 5-портовый коммутатор Ethernet 10/100 Мбит/с
pins: 0 E-PAD, 1 AVDDL, 2 RXIP1, 3 RXIN1, 4 TXON1, 5 TXOP1, 6 AVDDH, 7 DVDDL, 8 AVDDH, 9 TXOP2, 10 TXON2, 11 RXIN2, 12 RXIP2, 13 AVDDL, 14 RXIP3, 15 RXIN3, 16 TXON3, 17 TXOP3, 18 AVDDH, 19 TXOP4, 20 TXON4, 21 RXIN4, 22 RXIP4, 23 AVDDL, 24 DVDDL, 25 SCL/MDC, 26 SDA/MDIO, 27 RESETB, 28 LDIND/DIS_LD, 29 P0LED/DIS_EEE, 30 P1LED, 31 DVDDh, 32 P2LED/DIS_RST_BLINK, 33 P3LED, 34 P4LED, 35 DVDDL, 36 V10OUT, 37 V33IN, 38 AVDDHPLL, 39 XO, 40 XI, 41 AVDDLPLL, 42 IBREF, 43 AVDDL, 44 RXIP0, 45 RXIN0, 46 TXON0, 47 TXOP0, 48 AVDDH

## SPV1050
designator U?
Ultralow power energy harvester and battery charger; Order: SPV1050
footprint 20-VFQFPN
pins: 1 MPP (in), 2 MPP-SET (in), 3 MPP-REF (in), 4 GND (power), 5 LDO1_EN (in), 6 LDO2_EN (in), 7 ~{BATT_CHG} (out), 8 ~{BATT_CONN} (out), 9 EOC (in), 10 UVP (in), 11 LDO1 (out), 12 LDO2 (out), 13 CONF (in), 14 BATT (io), 15 STORE (io), 16 IN_LV (in), 17 NC, 18 PGND (power), 19 L_HV (in), 20 IN_HV (in)

## STM32F030x4
designator U?, comment STM32F030
STM32F030 in TSSOP20; Order: STM32F030F4P6TR
footprint TSSOP-20
pins: 1 BOOT0 (io), 2 PF0-OSC_IN (in), 3 PF1-OSC_OUT (out), 4 NRST (in), 5 VDDA (power), 6 PA0 (io), 7 PA1 (io), 8 PA2 (io), 9 PA3 (io), 10 PA4 (io), 11 PA5 (io), 12 PA6 (io), 13 PA7 (io), 14 PB1 (io), 15 VSS (power), 16 VDD (power), 17 PA9 (io), 18 PA10 (io), 19 PA13 (io), 20 PA14 (io)

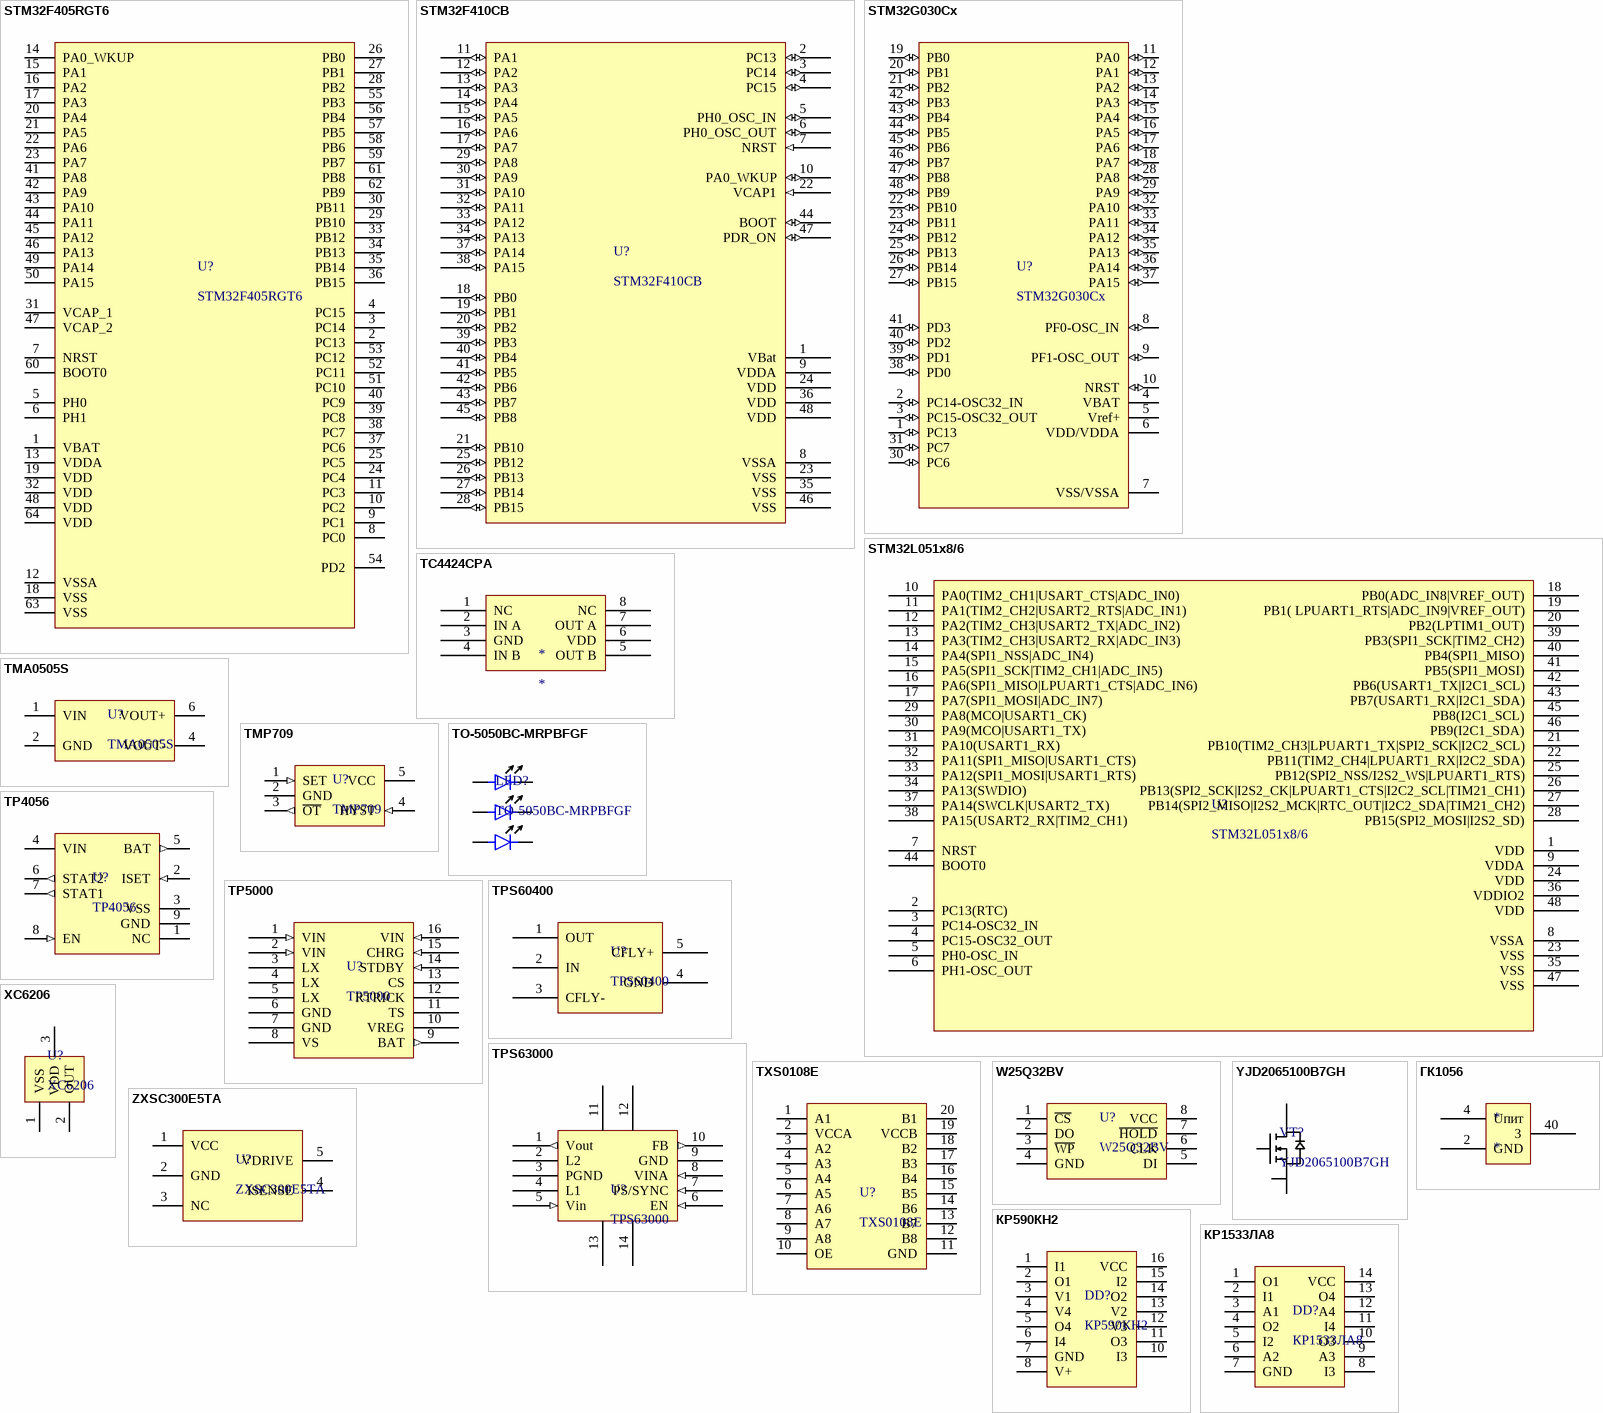
[diagram p3: symbols STM32F405RGT6 to КР1533ЛА8]

## STM32F405RGT6
designator U?
For BLDC; Order: STM32F405RGT6
footprint LQFP-64
pins: 1 VBAT, 2 PC13, 3 PC14, 4 PC15, 5 PH0, 6 PH1, 7 NRST, 8 PC0, 9 PC1, 10 PC2, 11 PC3, 12 VSSA, 13 VDDA, 14 PA0_WKUP, 15 PA1, 16 PA2, 17 PA3, 18 VSS, 19 VDD, 20 PA4, 21 PA5, 22 PA6, 23 PA7, 24 PC4, 25 PC5, 26 PB0, 27 PB1, 28 PB2, 29 PB10, 30 PB11, 31 VCAP_1, 32 VDD, 33 PB12, 34 PB13, 35 PB14, 36 PB15, 37 PC6, 38 PC7, 39 PC8, 40 PC9, 41 PA8, 42 PA9, 43 PA10, 44 PA11, 45 PA12, 46 PA13, 47 VCAP_2, 48 VDD, 49 PA14, 50 PA15, 51 PC10, 52 PC11, 53 PC12, 54 PD2, 55 PB3, 56 PB4, 57 PB5, 58 PB6, 59 PB7, 60 BOOT0, 61 PB8, 62 PB9, 63 VSS, 64 VDD

## STM32F410CB
designator U?
Order: STM32F410XX LQFP48
footprint LQFP-48 (48-Pin Thin Quad Flat Pack 0.5 mm Pitch, IPC High Density)
pins: 1 VBat (power), 2 PC13 (io), 3 PC14 (io), 4 PC15 (io), 5 PH0_OSC_IN (io), 6 PH0_OSC_OUT (io), 7 NRST (in), 8 VSSA (power), 9 VDDA (power), 10 PA0_WKUP (io), 11 PA1 (io), 12 PA2 (io), 13 PA3 (io), 14 PA4 (io), 15 PA5 (io), 16 PA6 (io), 17 PA7 (io), 18 PB0 (io), 19 PB1 (io), 20 PB2 (io), 21 PB10 (io), 22 VCAP1 (in), 23 VSS (power), 24 VDD (power), 25 PB12 (io), 26 PB13 (io), 27 PB14 (io), 28 PB15 (io), 29 PA8 (io), 30 PA9 (io), 31 PA10 (io), 32 PA11 (io), 33 PA12 (io), 34 PA13 (io), 35 VSS (power), 36 VDD (power), 37 PA14 (io), 38 PA15 (io), 39 PB3 (io), 40 PB4 (io), 41 PB5 (io), 42 PB6 (io), 43 PB7 (io), 44 BOOT (io), 45 PB8 (io), 46 VSS (power), 47 PDR_ON (io), 48 VDD (power)

## STM32G030Cx
designator U?
Arm Cortex-M0+ 32-bit MCU, up to 64 KB Flash, 8 KB RAM, / 2x USART, timers, ADC, comm. I/Fs, 2.0-3.6V; Order: STM32G030C6T6
footprint LQFP-48 (48-Pin Thin Quad Flat Pack 0.5 mm Pitch, IPC High Density)
pins: 1 PC13 (io), 2 PC14-OSC32_IN (io), 3 PC15-OSC32_OUT (io), 4 VBAT (power), 5 Vref+ (power), 6 VDD/VDDA (power), 7 VSS/VSSA (power), 8 PF0-OSC_IN (io), 9 PF1-OSC_OUT (io), 10 NRST (io), 11 PA0 (io), 12 PA1 (io), 13 PA2 (io), 14 PA3 (io), 15 PA4 (io), 16 PA5 (io), 17 PA6 (io), 18 PA7 (io), 19 PB0 (io), 20 PB1 (io), 21 PB2 (io), 22 PB10 (io), 23 PB11 (io), 24 PB12 (io), 25 PB13 (io), 26 PB14 (io), 27 PB15 (io), 28 PA8 (io), 29 PA9 (io), 30 PC6 (io), 31 PC7 (io), 32 PA10 (io), 33 PA11 (io), 34 PA12 (io), 35 PA13 (io), 36 PA14 (io), 37 PA15 (io), 38 PD0 (io), 39 PD1 (io), 40 PD2 (io), 41 PD3 (io), 42 PB3 (io), 43 PB4 (io), 44 PB5 (io), 45 PB6 (io), 46 PB7 (io), 47 PB8 (io), 48 PB9 (io)

## STM32L051x8/6
designator U?
STM32L051x8/6 LQFP48; Order: STM32L051C8T6
footprint LQFP-48 (48-Pin Thin Quad Flat Pack 0.5 mm Pitch, IPC High Density)
pins: 1 VDD, 2 PC13(RTC), 3 PC14-OSC32_IN, 4 PC15-OSC32_OUT, 5 PH0-OSC_IN, 6 PH1-OSC_OUT, 7 NRST, 8 VSSA, 9 VDDA, 10 PA0(TIM2_CH1|USART_CTS|ADC_IN0), 11 PA1(TIM2_CH2|USART2_RTS|ADC_IN1) , 12 PA2(TIM2_CH3|USART2_TX|ADC_IN2), 13 PA3(TIM2_CH3|USART2_RX|ADC_IN3), 14 PA4(SPI1_NSS|ADC_IN4), 15 PA5(SPI1_SCK|TIM2_CH1|ADC_IN5), 16 PA6(SPI1_MISO|LPUART1_CTS|ADC_IN6), 17 PA7(SPI1_MOSI|ADC_IN7), 18 PB0(ADC_IN8|VREF_OUT), 19 PB1( LPUART1_RTS|ADC_IN9|VREF_OUT), 20 PB2(LPTIM1_OUT), 21 PB10(TIM2_CH3|LPUART1_TX|SPI2_SCK|I2C2_SCL), 22 PB11(TIM2_CH4|LPUART1_RX|I2C2_SDA), 23 VSS, 24 VDD, 25 PB12(SPI2_NSS/I2S2_WS|LPUART1_RTS), 26 PB13(SPI2_SCK|I2S2_CK|LPUART1_CTS|I2C2_SCL|TIM21_CH1), 27 PB14(SPI2_MISO|I2S2_MCK|RTC_OUT|I2C2_SDA|TIM21_CH2), 28 PB15(SPI2_MOSI|I2S2_SD), 29 PA8(MCO|USART1_CK), 30 PA9(MCO|USART1_TX), 31 PA10(USART1_RX), 32 PA11(SPI1_MISO|USART1_CTS), 33 PA12(SPI1_MOSI|USART1_RTS), 34 PA13(SWDIO), 35 VSS, 36 VDDIO2, 37 PA14(SWCLK|USART2_TX), 38 PA15(USART2_RX|TIM2_CH1), 39 PB3(SPI1_SCK|TIM2_CH2), 40 PB4(SPI1_MISO), 41 PB5(SPI1_MOSI), 42 PB6(USART1_TX|I2C1_SCL), 43 PB7(USART1_RX|I2C1_SDA), 44 BOOT0, 45 PB8(I2C1_SCL), 46 PB9(I2C1_SDA), 47 VSS, 48 VDD

## TC4424CPA
designator *
footprint DIP-8-300 (DIP; 8 Leads; Row Spacing 7.62 mm; Pitch 2.54 mm)
pins: 1 NC, 2 IN A, 3 GND, 4 IN B, 5 OUT B, 6 VDD, 7 OUT A, 8 NC

## TMA0505S
designator U?
Преобразователь DC-DC на печатную плату; Order: TMA0505S
footprint SIP5
pins: 1 VIN, 2 GND, 4 VOUT-, 6 VOUT+

## TMP709
designator U?
Thermostat Switches; Order: TMP709AIDBVT
footprint SOT23-5
pins: 1 SET (in), 2 GND (power), 3 ~{OT} (out), 4 HYST (in), 5 VCC (power)

## TO-5050BC-MRPBFGF
designator LED?
Order: TO-5050BC-MRPBFGF
pins: 1 CathodeB, 2 CathodeG, 3 CathodeR, 4 AnodeR, 5 AnodeG, 6 AnodeB

## TP4056
designator U?
1A Standalone Linear Li-Ion Battery Charger; Order: TP4056
footprint HSOP-8 (SOP, 8-Leads, Body 4,90x3,90mm, Pitch 1,27mm, Thermal Pad 3,10x2,40mm, IPC Medium Density)
pins: 1 NC, 2 ISET (in), 3 VSS (power), 4 VIN (power), 5 BAT (out), 6 STAT2 (out), 7 STAT1 (out), 8 EN (in), 9 GND (power)

## TP5000
designator U?
DC-DC battery charger
pins: 1 VIN (in), 2 VIN (in), 3 LX, 4 LX, 5 LX, 6 GND (power), 7 GND (power), 8 VS, 9 BAT (out), 10 VREG, 11 TS, 12 RTRICK, 13 CS, 14 STDBY (in), 15 CHRG (in), 16 VIN (in)

## TPS60400
designator U?
DC-DC  power Invertor (1.6-5.5V)
footprint SOT23-5
pins: 1 OUT, 2 IN, 3 CFLY-, 4 GND, 5 CFLY+

## TPS63000
designator U?
DCDC buck boost convertor
pins: 1 Vout (out), 2 L2, 3 PGND (power), 4 L1, 5 Vin (in), 6 EN (in), 7 PS/SYNC (in), 8 VINA (in), 9 GND (power), 10 FB (out), 11 (power), 12 (power), 13 (power), 14 (power)

## TXS0108E
designator U?
8-Bit Bi-directional, Level-Shifting, Voltage Translator / for Open-Drain and Push-Pull Applications; Order: TXS0108E
footprint TSSOP-20
pins: 1 A1, 2 VCCA, 3 A2, 4 A3, 5 A4, 6 A5, 7 A6, 8 A7, 9 A8, 10 OE, 11 GND, 12 B8, 13 B7, 14 B6, 15 B5, 16 B4, 17 B3, 18 B2, 19 VCCB, 20 B1

## W25Q32BV
designator U?
Микросхема памяти FLASH 32МБит
pins: 1 ~{CS}, 2 DO, 3 ~{WP}, 4 GND, 5 DI, 6 CLK, 7 ~{HOLD}, 8 VCC

## XC6206
designator U?
LDO 3V; Order: XC6206
footprint SOT23-3
pins: 1 VSS, 2 OUT, 3 VDD

## YJD2065100B7GH
designator VT?
Silicon Carbide Power MOSFET （N-Channel Enhancement）; Order: YJD2065100B7GH
footprint TO-263-7
pins: 1 G, 2 SS, 3 S, 4 S, 5 S, 6 S, 7 S, TAB D

## ZXSC300E5TA
designator U?
SINGLE OR MULTI CELL LED DRIVER SOLUTION; Order: ZXSC300E5TA
footprint SOT23-5
pins: 1 VCC, 2 GND, 3 NC, 4 ISENSE, 5 VDRIVE

## ГК1056
designator *
pins: 2 GND, 4 Uпит, 40 3

## КР590КН2
designator DD?
– четырехканальный МОП - ключ
pins: 1 I1, 2 O1, 3 V1, 4 V4, 5 O4, 6 I4, 7 GND, 8 V+, 10 I3, 11 O3, 12 V3, 13 V2, 14 O2, 15 I2, 16 VCC

## КР1533ЛА8
designator DD?
2 И-НЕ
pins: 1 O1, 2 I1, 3 A1, 4 O2, 5 I2, 6 A2, 7 GND, 8 I3, 9 A3, 10 O3, 11 I4, 12 A4, 13 O4, 14 VCC